# Altium footprint library Vishay Sprague Footprints.PcbLib: 143 footprints (part 5 of 9)
Each footprint in its own frame and in the unit in brackets; x right, y up, seen from the top. Pads: shape width x height; smd on the part's side, far side on the other; paste and mask are expansions set on the pad; w line width, h text height; cw(c..) or ccw(c..) is an arc to the next point about the centre after c.
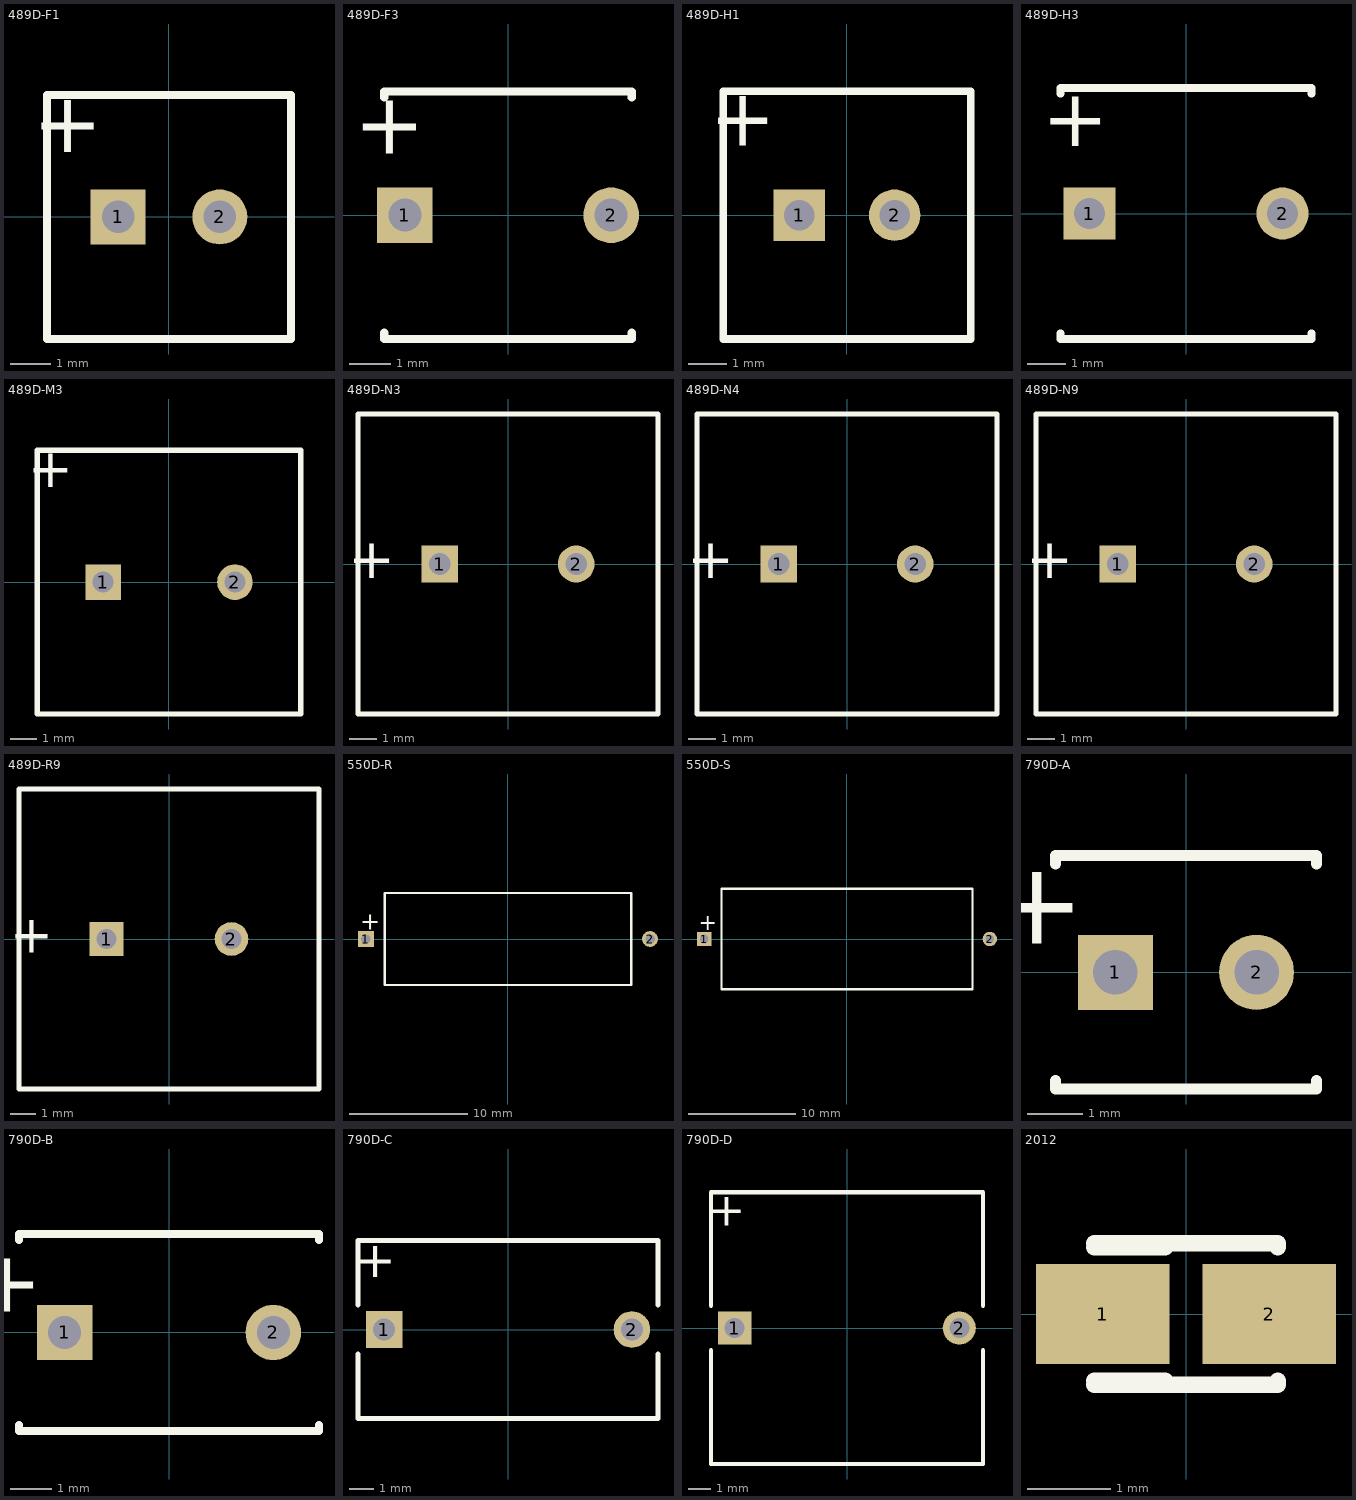
[diagram p4: the footprints below, top view; thin cyan lines are the x and y axes]

## 489D-F1 [mm] "Capacitor, Tantalum Bead; Body 6 x 11 mm (Dia.xH max); Pin Spacing 2.5 mm (typ)"
height 11
pads (2):
  rect 1.35x1.35 hole 0.8: 1(-1.25,0)
  round 1.35 hole 0.8: 2(1.25,0)
Top Overlay:
  lines w0.2: -3,-3 -3,3 3,3 3,-3 -3,-3
  text "+" at -1.625,2.875 h1.5

## 489D-F3 [mm] "Capacitor, Tantalum Bead; Body 6 x 11 mm (Dia.xH max); Pin Spacing 2.5 mm (typ)"
height 11
pads (2):
  rect 1.35x1.35 hole 0.8: 1(-2.5,0)
  round 1.35 hole 0.8: 2(2.5,0)
Top Overlay:
  lines w0.2: -3,-2.85 -3,-3 3,-3 3,-2.85 ; -3,2.85 -3,3 3,3 3,2.85
  text "+" at -2,2.77 h1.5

## 489D-H1 [mm] "Capacitor, Tantalum Bead; Body 6.5 x 12 mm (Dia.xH max); Pin Spacing 2.5 mm (typ)"
height 12
pads (2):
  rect 1.35x1.35 hole 0.8: 1(-1.25,0)
  round 1.35 hole 0.8: 2(1.25,0)
Top Overlay:
  lines w0.2: -3.25,-3.25 -3.25,3.25 3.25,3.25 3.25,-3.25 -3.25,-3.25
  text "+" at -1.875,3.125 h1.5

## 489D-H3 [mm] "Capacitor, Tantalum Bead; Body 6.5 x 12 mm (Dia.xH max); Pin Spacing 2.5 mm (typ)"
height 12
pads (2):
  rect 1.35x1.35 hole 0.8: 1(-2.5,0)
  round 1.35 hole 0.8: 2(2.5,0)
Top Overlay:
  lines w0.2: -3.25,-3.1 -3.25,-3.25 3.25,-3.25 3.25,-3.1 ; -3.25,3.1 -3.25,3.25 3.25,3.25 3.25,3.1
  text "+" at -2,3.02 h1.5

## 489D-M3 [mm] "Capacitor, Tantalum Bead; Body 10 x 14.5 mm (Dia.xH max); Pin Spacing 5.0 mm (typ)"
height 14.5
pads (2):
  rect 1.35x1.35 hole 0.8: 1(-2.5,0)
  round 1.35 hole 0.8: 2(2.5,0)
Top Overlay:
  lines w0.2: -5,-5 5,-5 5,5 -5,5 -5,-5
  text "+" at -3.625,4.875 h1.5

## 489D-N3 [mm] "Capacitor, Tantalum Bead; Body 11 x 16 mm (Dia.xH max); Pin Spacing 5.0 mm (typ)"
height 16
pads (2):
  rect 1.35x1.35 hole 0.8: 1(-2.5,0)
  round 1.35 hole 0.8: 2(2.5,0)
Top Overlay:
  lines w0.2: -5.5,-5.5 -5.5,5.5 5.5,5.5 5.5,-5.5 -5.5,-5.5
  text "+" at -4.125,0.75 h1.5

## 489D-N4 [mm] "Capacitor, Tantalum Bead; Body 11 x 16 mm (Dia.xH max); Pin Spacing 5.0 mm (typ)"
height 16
pads (2):
  rect 1.35x1.35 hole 0.8: 1(-2.5,0)
  round 1.35 hole 0.8: 2(2.5,0)
Top Overlay:
  lines w0.2: -5.5,-5.5 -5.5,5.5 5.5,5.5 5.5,-5.5 -5.5,-5.5
  text "+" at -4.125,0.75 h1.5

## 489D-N9 [mm] "Capacitor, Tantalum Bead; Body 11 x 19 mm (Dia.xH max); Pin Spacing 5.0 mm (typ)"
height 19
pads (2):
  rect 1.35x1.35 hole 0.8: 1(-2.5,0)
  round 1.35 hole 0.8: 2(2.5,0)
Top Overlay:
  lines w0.2: -5.5,-5.5 -5.5,5.5 5.5,5.5 5.5,-5.5 -5.5,-5.5
  text "+" at -4.125,0.75 h1.5

## 489D-R9 [mm] "Capacitor, Tantalum Bead; Body 12 x 22 mm (Dia.xH max); Pin Spacing 5.0 mm (typ)"
height 22
pads (2):
  rect 1.35x1.35 hole 0.8: 1(-2.5,0)
  round 1.35 hole 0.8: 2(2.5,0)
Top Overlay:
  lines w0.2: -6,-6 6,-6 6,6 -6,6 -6,-6
  text "+" at -4.625,0.75 h1.5

## 550D-R [mm] "Capacitor, Axial, Polarised; Body 18.2 x 7.8 mm (LxDia. max), Lead Dia. 0.51 mm (typ)"
height 7.8
pads (2):
  rect 1.35x1.35 hole 0.8: 1(-12.05,0)
  round 1.35 hole 0.8: 2(12.05,0)
Top Overlay:
  lines w0.2: -10.45,-3.9 10.45,-3.9 10.45,3.9 -10.45,3.9 -10.45,-3.9
  text "+" at -12.55,0.8 h1.5

## 550D-S [mm] "Capacitor, Axial, Polarised; Body 20.8 x 9.3 mm (LxDia. max), Lead Dia. 0.51 mm (typ)"
height 9.4
pads (2):
  rect 1.35x1.35 hole 0.8: 1(-13.35,0)
  round 1.35 hole 0.8: 2(13.35,0)
Top Overlay:
  lines w0.2: -11.75,-4.7 11.75,-4.7 11.75,4.7 -11.75,4.7 -11.75,-4.7
  text "+" at -13.85,0.8 h1.5

## 790D-A [mm] "Capacitor, Radial, Tantalum; Body 4.7 x 4.2 x 7.3 mm (WxTxH max); Pin Spacing 2.54 mm (typ)"
height 7.3
pads (2):
  rect 1.35x1.35 hole 0.8: 1(-1.27,0)
  round 1.35 hole 0.8: 2(1.27,0)
Top Overlay:
  lines w0.2: -2.35,-1.95 -2.35,-2.1 2.35,-2.1 2.35,-1.95 ; -2.35,1.95 -2.35,2.1 2.35,2.1 2.35,1.95
  text "+" at -1.82,1.8 h1.5

## 790D-B [mm] "Capacitor, Radial, Tantalum; Body 7.3 x 4.8 x 10.5 mm (WxTxH max); Pin Spacing 5.08 mm (typ)"
height 10.5
pads (2):
  rect 1.35x1.35 hole 0.8: 1(-2.54,0)
  round 1.35 hole 0.8: 2(2.54,0)
Top Overlay:
  lines w0.2: -3.65,-2.25 -3.65,-2.4 3.65,-2.4 3.65,-2.25 ; -3.65,2.25 -3.65,2.4 3.65,2.4 3.65,2.25
  text "+" at -3.09,1.8 h1.5

## 790D-C [mm] "Capacitor, Radial, Tantalum; Body 12.3 x 7.3 x 10.5 mm (WxTxH max); Pin Spacing 10.16 mm (typ)"
height 10.5
pads (2):
  rect 1.5x1.5 hole 0.9: 1(-5.08,0)
  round 1.5 hole 0.9: 2(5.08,0)
Top Overlay:
  lines w0.2: -6.15,-1 -6.15,-3.65 6.15,-3.65 6.15,-1 ; -6.15,1 -6.15,3.65 6.15,3.65 6.15,1
  text "+" at -4.58,3.422 h1.5

## 790D-D [mm] "Capacitor, Radial, Tantalum; Body 12.3 x 12.3 x 10.5 mm (WxTxH max); Pin Spacing 10.16 mm (typ)"
height 10.5
pads (2):
  rect 1.5x1.5 hole 0.9: 1(-5.08,0)
  round 1.5 hole 0.9: 2(5.08,0)
Top Overlay:
  lines w0.2: -6.15,-1 -6.15,-6.15 6.15,-6.15 6.15,-1 ; -6.15,1 -6.15,6.15 6.15,6.15 6.15,1
  text "+" at -4.58,5.92 h1.5

## 2012 [mm] "Capacitor, SM Tantalum; Body 2.0 x 1.25 mm (LxW typ)"
height 1.2
pads (2):
  rect 1.6x1.2 smd: 1(-1,0) 2(1,0)
Top Overlay:
  lines w0.2: -1.1,-0.85 1.1,-0.85 1.1,-0.8 ; -1.1,-0.8 -0.25,-0.8 ; -1.1,0.8 -0.25,0.8 ; -1.1,0.85 1.1,0.85 1.1,0.8